# Altium footprint library Sucaiku.PcbLib: 51 footprints (part 2 of 4)
Each footprint in its own frame and in the unit in brackets; x right, y up, seen from the top. Pads: shape width x height; smd on the part's side, far side on the other; paste and mask are expansions set on the pad; w line width, h text height; cw(c..) or ccw(c..) is an arc to the next point about the centre after c.
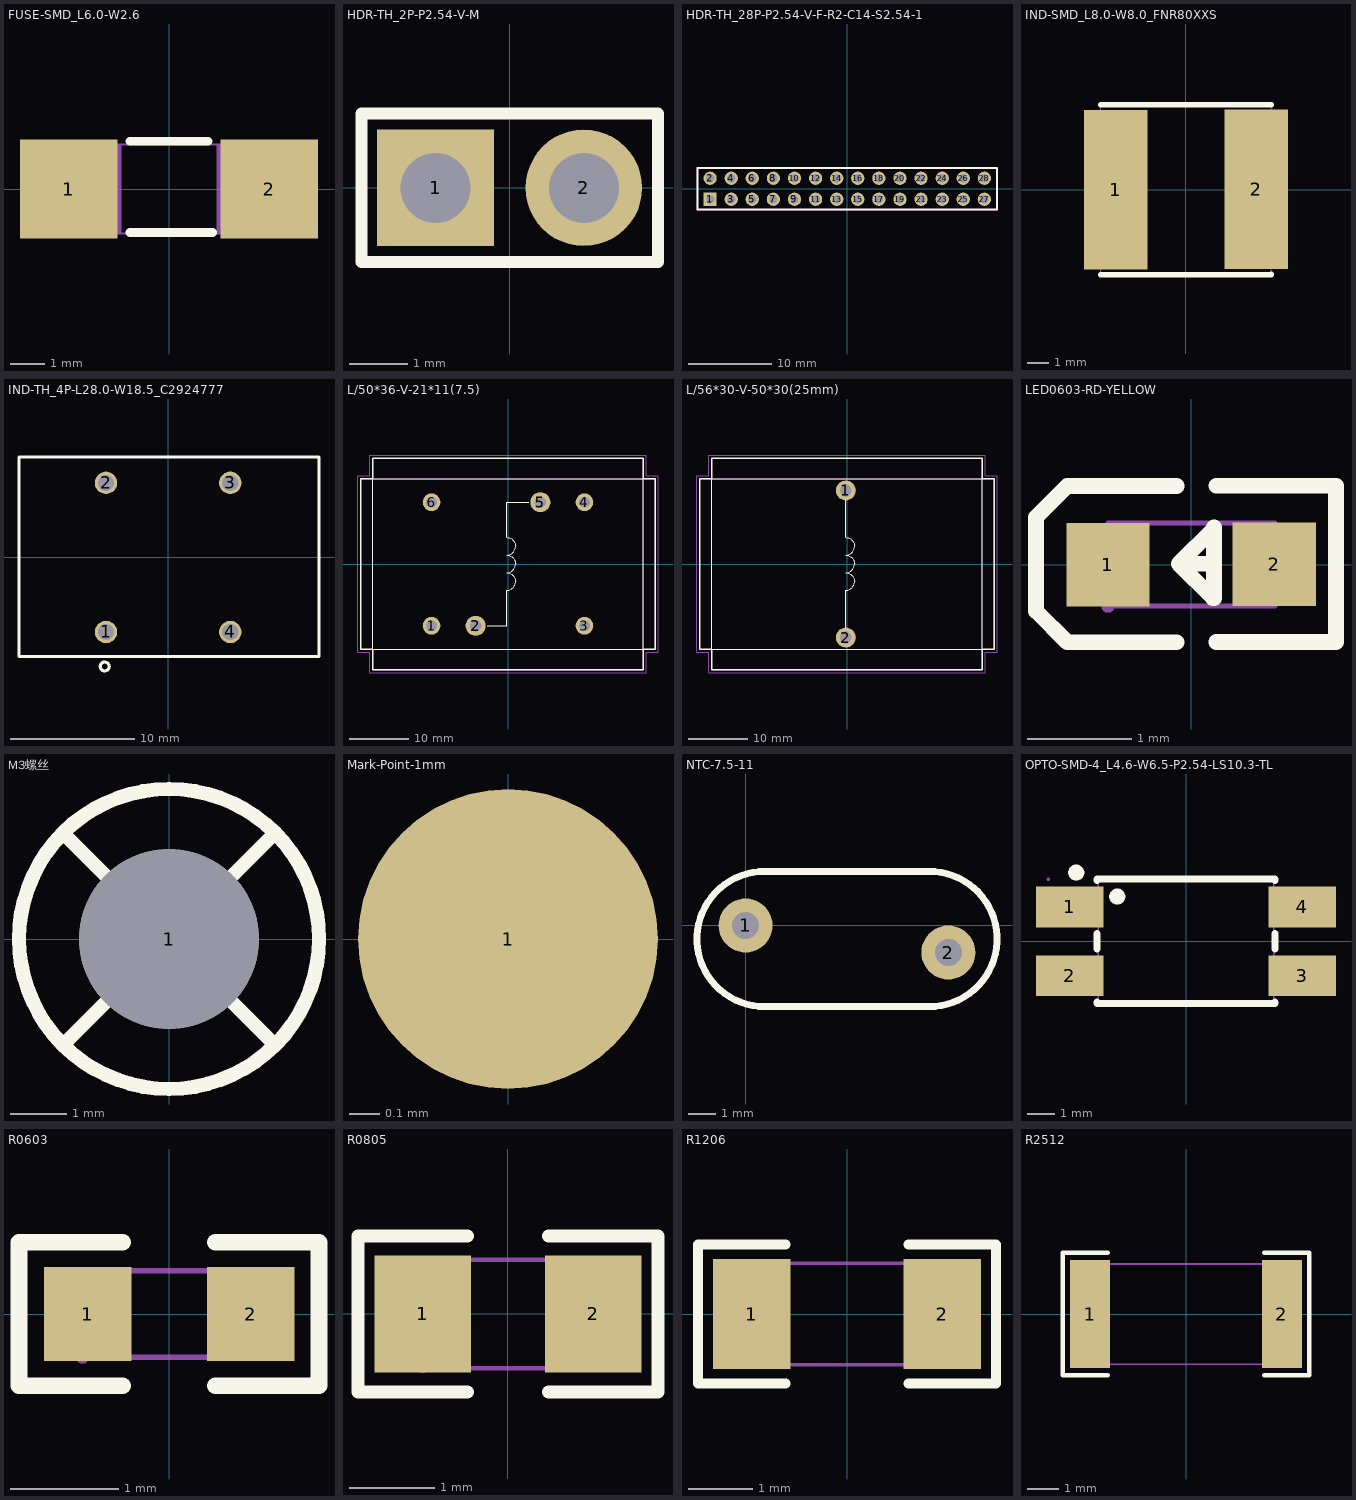
[diagram p1: the footprints below, top view; thin cyan lines are the x and y axes]

## FUSE-SMD_L6.0-W2.6 [mil]
pads (2):
  rect 112.2x114.2 smd paste+0 mask+2: 1(-115.2,0) 2(115.2,0)
Top Overlay:
  lines w10: -45,-50 50,-50 ; -45,55 45,55
Mechanical 7:
  lines w2: -118.1,-51.2 118.1,-51.2 118.1,51.2 -118.1,51.2 -118.1,-51.2
Mechanical 8:
  region: -115.7,-51.2 -116.1,-52.4 -117.1,-53.3 -118.4,-53.5 -119.6,-53 -120.4,-51.8 -120.4,-50.5 -119.6,-49.4 -118.4,-48.8 -117.1,-49 -116.1,-49.9
Mechanical 9:
  region: 55.1,51.2 118.1,51.2 118.1,-51.2 55.1,-51.2
  region: -118.1,51.2 -55.1,51.2 -55.1,-51.2 -118.1,-51.2

## HDR-TH_2P-P2.54-V-M [mil]
pads (2):
  rect 78.7x78.7 hole 47.2: 1(-50,0)
  round 78.7 hole 47.2: 2(50,0)
Top Overlay:
  lines w8: -100,-50 -100,50 -25,50 100,50 100,-50 -100,-50
Mechanical 7:
  lines w2: -100,-49.2 100,-49.2 100,49.2 -100,49.2 -100,-49.2
Mechanical 8:
  region: -97.7,-49.2 -98,-50.5 -99,-51.4 -100.4,-51.6 -101.6,-51 -102.3,-49.9 -102.3,-48.5 -101.6,-47.4 -100.4,-46.9 -99,-47.1 -98,-47.9
Mechanical 9:
  region: -62.6,12.6 -37.4,12.6 -37.4,-12.6 -62.6,-12.6
  region: 37.4,12.6 62.6,12.6 62.6,-12.6 37.4,-12.6

## HDR-TH_28P-P2.54-V-F-R2-C14-S2.54-1 [mil]
pads (28):
  rect 63x63 hole 40.2: 1(-650,-50)
  round 63 hole 40.2: 2(-650,50) 3(-550,-50) 4(-550,50) 5(-450,-50) 6(-450,50) 7(-350,-50) 8(-350,50) 9(-250,-50) 10(-250,50) 11(-150,-50) 12(-150,50) 13(-50,-50) 14(-50,50) 15(50,-50) 16(50,50) 17(150,-50) 18(150,50) 19(250,-50) 20(250,50) 21(350,-50) 22(350,50) 23(450,-50) 24(450,50) 25(550,-50) 26(550,50) 27(650,-50) 28(650,50)
Top Overlay:
  lines w10: -709.9,-98.4 709.8,-98.4 709.8,98.5 -709.9,98.5 -709.9,-98.4
Mechanical 7:
  lines w2: -709.9,-98.4 -709.9,98.5 709.8,98.5 709.8,-98.4 -709.9,-98.4
Mechanical 8:
  region: -707.5,-98.4 -707.9,-99.7 -708.9,-100.5 -710.2,-100.7 -711.4,-100.2 -712.1,-99.1 -712.1,-97.7 -711.4,-96.6 -710.2,-96.1 -708.9,-96.2 -707.9,-97.1
Mechanical 9:
  region: -662.6,-42.1 -637.4,-42.1 -637.4,-57.8 -662.6,-57.8
  region: -662.6,57.9 -637.4,57.9 -637.4,42.2 -662.6,42.2
  region: -562.6,-42.1 -537.4,-42.1 -537.4,-57.8 -562.6,-57.8
  region: -562.6,57.9 -537.4,57.9 -537.4,42.2 -562.6,42.2
  region: -462.6,-42.1 -437.4,-42.1 -437.4,-57.8 -462.6,-57.8
  region: -462.6,57.9 -437.4,57.9 -437.4,42.2 -462.6,42.2
  region: -362.6,-42.1 -337.4,-42.1 -337.4,-57.8 -362.6,-57.8
  region: -362.6,57.9 -337.4,57.9 -337.4,42.2 -362.6,42.2
  region: -262.6,-42.1 -237.4,-42.1 -237.4,-57.8 -262.6,-57.8
  region: -262.6,57.9 -237.4,57.9 -237.4,42.2 -262.6,42.2
  region: -162.6,-42.1 -137.4,-42.1 -137.4,-57.8 -162.6,-57.8
  region: -162.6,57.9 -137.4,57.9 -137.4,42.2 -162.6,42.2
  region: -62.6,-42.1 -37.4,-42.1 -37.4,-57.8 -62.6,-57.8
  region: -62.6,57.9 -37.4,57.9 -37.4,42.2 -62.6,42.2
  region: 37.4,-42.1 62.6,-42.1 62.6,-57.8 37.4,-57.8
  region: 37.4,57.9 62.6,57.9 62.6,42.2 37.4,42.2
  region: 137.4,-42.1 162.6,-42.1 162.6,-57.8 137.4,-57.8
  region: 137.4,57.9 162.6,57.9 162.6,42.2 137.4,42.2
  region: 237.4,-42.1 262.6,-42.1 262.6,-57.8 237.4,-57.8
  region: 237.4,57.9 262.6,57.9 262.6,42.2 237.4,42.2
  region: 337.4,-42.1 362.6,-42.1 362.6,-57.8 337.4,-57.8
  region: 337.4,57.9 362.6,57.9 362.6,42.2 337.4,42.2
  region: 437.4,-42.1 462.6,-42.1 462.6,-57.8 437.4,-57.8
  region: 437.4,57.9 462.6,57.9 462.6,42.2 437.4,42.2
  region: 537.4,-42.1 562.6,-42.1 562.6,-57.8 537.4,-57.8
  region: 537.4,57.9 562.6,57.9 562.6,42.2 537.4,42.2
  region: 637.4,-42.1 662.6,-42.1 662.6,-57.8 637.4,-57.8
  region: 637.4,57.9 662.6,57.9 662.6,42.2 637.4,42.2

## IND-SMD_L8.0-W8.0_FNR80XXS [mil]
pads (2):
  rect 118.1x295.3 smd: 1(-129.9,-0.5) 2(129.9,0.5)
Top Overlay:
  lines w10: -157.5,-157.3 -157.5,-157.5 157.5,-157.5 157.5,-156.3 ; -157.5,157.4 157.5,157.4 157.5,157.2
Mechanical 7:
  lines w2: -157.5,-157.5 157.5,-157.5 157.5,157.4 -157.5,157.4 -157.5,-157.5
Mechanical 8:
  region: -155.1,157.4 -155.5,156.2 -156.5,155.3 -157.8,155.1 -159,155.7 -159.7,156.8 -159.7,158.1 -159,159.2 -157.8,159.8 -156.5,159.6 -155.5,158.7
Mechanical 9:
  region: -78.7,123.5 -78.7,-124.6 -157.5,-124.6 -157.5,123.5
  region: 78.8,-123.6 78.8,124.5 157.5,124.5 157.5,-123.6

## IND-TH_4P-L28.0-W18.5_C2924777 [mil]
pads (4):
  round 70.9 hole 51.2 paste-99999 mask+2: 1(-196.9,-236.2) 2(-196.9,236.2) 3(196.8,236.2) 4(196.8,-236.2)
Top Overlay:
  lines w10: -472.5,-313.8 477.7,-313.8 477.7,317.9 -472.5,317.9 -472.5,-313.8 ; -215.1,-347.1 -215.1,-343.8 -214.3,-340.6 -212.8,-337.7 -210.7,-335.2 -208.1,-333.2 -205.1,-331.9 -201.8,-331.3 -198.5,-331.5 -195.4,-332.5 -192.5,-334.1 -190.1,-336.4 -188.3,-339.1 -187.2,-342.2 -186.8,-345.5 -187.2,-348.7 -188.3,-351.8 -190.1,-354.6 -192.5,-356.8 -195.4,-358.5 -198.5,-359.4 -201.8,-359.6 -205.1,-359 -208.1,-357.7 -210.7,-355.8 -212.8,-353.3 -214.3,-350.3 -215.1,-347.1
Mechanical 9:
  region: -177.2,-236.2 -177.6,-240.1 -178.7,-243.7 -180.5,-247.2 -182.9,-250.1 -185.9,-252.6 -189.3,-254.4 -193,-255.5 -196.9,-255.9 -200.7,-255.5 -204.4,-254.4 -207.8,-252.6 -210.8,-250.1 -213.2,-247.2 -215,-243.7 -216.2,-240.1 -216.5,-236.2 -216.2,-232.4 -215,-228.7 -213.2,-225.3 -210.8,-222.3 -207.8,-219.9 -204.4,-218 -200.7,-216.9 -196.9,-216.5 -193,-216.9 -189.3,-218 -185.9,-219.9 -182.9,-222.3 -180.5,-225.3 -178.7,-228.7 -177.6,-232.4
  region: -177.2,236.2 -177.6,232.4 -178.7,228.7 -180.5,225.3 -182.9,222.3 -185.9,219.9 -189.3,218 -193,216.9 -196.9,216.5 -200.7,216.9 -204.4,218 -207.8,219.9 -210.8,222.3 -213.2,225.3 -215,228.7 -216.2,232.4 -216.5,236.2 -216.2,240.1 -215,243.8 -213.2,247.2 -210.8,250.1 -207.8,252.6 -204.4,254.4 -200.7,255.5 -196.9,255.9 -193,255.5 -189.3,254.4 -185.9,252.6 -182.9,250.1 -180.5,247.2 -178.7,243.8 -177.6,240.1
  region: 216.5,236.2 216.1,232.4 215,228.7 213.2,225.3 210.8,222.3 207.8,219.9 204.4,218 200.7,216.9 196.8,216.5 193,216.9 189.3,218 185.9,219.9 182.9,222.3 180.5,225.3 178.7,228.7 177.5,232.4 177.2,236.2 177.5,240.1 178.7,243.8 180.5,247.2 182.9,250.1 185.9,252.6 189.3,254.4 193,255.5 196.8,255.9 200.7,255.5 204.4,254.4 207.8,252.6 210.8,250.1 213.2,247.2 215,243.8 216.1,240.1
  region: 216.5,-236.2 216.1,-240.1 215,-243.7 213.2,-247.2 210.8,-250.1 207.8,-252.6 204.4,-254.4 200.7,-255.5 196.8,-255.9 193,-255.5 189.3,-254.4 185.9,-252.6 182.9,-250.1 180.5,-247.2 178.7,-243.7 177.5,-240.1 177.2,-236.2 177.5,-232.4 178.7,-228.7 180.5,-225.3 182.9,-222.3 185.9,-219.9 189.3,-218 193,-216.9 196.8,-216.5 200.7,-216.9 204.4,-218 207.8,-219.9 210.8,-222.3 213.2,-225.3 215,-228.7 216.1,-232.4

## L/50*36-V-21*11(7.5) [mil]
pads (6):
  round 118.1 hole 70.9: 1(-511.9,-413.4) 3(511.8,-413.4) 4(511.8,413.4) 6(-511.9,413.4)
  round 133.9 hole 78.7: 2(-216.6,-413.4) 5(216.5,413.4)
Top Overlay:
  lines w5: -139.8,-413.4 -8,-413.4 -8,-176.6 -1.2,-176.2 5.6,-175 12.2,-173.1 18.5,-170.4 24.4,-166.9 29.9,-162.8 34.9,-158.1 39.3,-152.8 43.1,-147.1 46.2,-141 48.5,-134.5 50.1,-127.8 50.9,-121 50.9,-114.1 50.1,-107.3 48.5,-100.6 46.2,-94.2 43.1,-88.1 39.3,-82.3 34.9,-77.1 29.9,-72.3 24.4,-68.2 18.5,-64.8 12.2,-62.1 5.6,-60.1 -1.2,-58.9 -8,-58.5 -1.2,-58.1 5.6,-56.9 12.2,-55 18.5,-52.2 24.4,-48.8 29.9,-44.7 34.9,-40 39.3,-34.7 43.1,-29 46.2,-22.9 48.5,-16.4 50.1,-9.7 50.9,-2.9 50.9,4 50.1,10.8 48.5,17.5 46.2,23.9 43.1,30.1 39.3,35.8 34.9,41.1 29.9,45.8 24.4,49.9 18.5,53.3 12.2,56 5.6,58 -1.2,59.2 -8,59.6 -1.2,60 5.6,61.2 12.2,63.1 18.5,65.9 24.4,69.3 29.9,73.4 34.9,78.1 39.3,83.4 43.1,89.1 46.2,95.2 48.5,101.7 50.1,108.4 50.9,115.2 50.9,122.1 50.1,128.9 48.5,135.6 46.2,142 43.1,148.2 39.3,153.9 34.9,159.2 29.9,163.9 24.4,168 18.5,171.4 12.2,174.1 5.6,176.1 -1.2,177.3 -8,177.7 -8,413.4 138.7,413.4 ; -984.3,-570.9 984.2,-570.9 984.2,570.9 -984.3,570.9 -984.3,-570.9 ; -905.6,-708.7 -905.6,708.6 905.5,708.6 905.5,-708.7 -905.6,-708.7
  lines w10: -984.3,-570.9 -905.5,-570.9 -905.5,-708.7 905.5,-708.7 905.5,-570.9 984.2,-570.9 984.2,570.9 905.5,570.9 905.5,708.7 -905.5,708.7 -905.6,570.9 -984.3,570.9 -984.3,-570.9
Mechanical 16:
  drawing of 234 lines, arcs and shapes, not listed

## L/56*30-V-50*30(25mm) [mil]
pads (2):
  round 133.9 hole 78.7: 1(-8,492.1) 2(-8,-492.2)
Top Overlay:
  lines w5: -8,-466 -8,-176.7 -1.2,-176.3 5.6,-175.1 12.2,-173.1 18.5,-170.4 24.4,-166.9 29.9,-162.8 34.9,-158.1 39.3,-152.9 43.1,-147.1 46.2,-141 48.5,-134.5 50.1,-127.9 50.9,-121 50.9,-114.2 50.1,-107.4 48.5,-100.7 46.2,-94.2 43.1,-88.1 39.3,-82.3 34.9,-77.1 29.9,-72.4 24.4,-68.3 18.5,-64.8 12.2,-62.1 5.6,-60.1 -1.2,-59 -8,-58.6 -1.2,-58.2 5.6,-57 12.2,-55 18.5,-52.3 24.4,-48.8 29.9,-44.7 34.9,-40 39.3,-34.8 43.1,-29 46.2,-22.9 48.5,-16.4 50.1,-9.8 50.9,-2.9 50.9,3.9 50.1,10.8 48.5,17.4 46.2,23.9 43.1,30 39.3,35.8 34.9,41 29.9,45.7 24.4,49.8 18.5,53.3 12.2,56 5.6,58 -1.2,59.2 -8,59.6 -1.2,60 5.6,61.2 12.2,63.1 18.5,65.8 24.4,69.3 29.9,73.4 34.9,78.1 39.3,83.3 43.1,89.1 46.2,95.2 48.5,101.7 50.1,108.4 50.9,115.2 50.9,122 50.1,128.9 48.5,135.6 46.2,142 43.1,148.1 39.3,153.9 34.9,159.1 29.9,163.9 24.4,168 18.5,171.4 12.2,174.1 5.6,176.1 -1.2,177.3 -8,177.7 -8,485 ; -984.3,-570.9 -984.3,570.8 984.2,570.8 984.2,-570.9 -984.3,-570.9 ; -905.5,-708.7 905.5,-708.7 905.5,708.6 -905.5,708.6 -905.5,-708.7
  lines w10: -984.3,-570.9 -905.5,-570.9 -905.5,-708.7 905.5,-708.7 905.5,-570.9 984.2,-570.9 984.2,570.8 905.5,570.8 905.5,708.6 -905.5,708.6 -905.5,570.8 -984.3,570.8 -984.3,-570.9
Mechanical 16:
  lines w2: -984.3,-570.9 -984.3,570.8 984.2,570.8 984.2,-570.9 -984.3,-570.9 ; -905.5,-708.7 -905.5,708.6 905.5,708.6 905.5,-708.7 -905.5,-708.7 ; -35.5,-494.5 -34.7,-499.1 -33.1,-503.5 -30.9,-507.6 -27.9,-511.2 -24.4,-514.3 -20.4,-516.8 -16.1,-518.5 -11.5,-519.5 -6.8,-519.7 -2.2,-519.1 2.3,-517.7 6.4,-515.6 10.2,-512.8 13.4,-509.5 16,-505.6 18,-501.3 19.1,-496.8 19.5,-492.2 19.1,-487.5 18,-483 16,-478.7 13.4,-474.8 10.2,-471.5 6.4,-468.7 2.3,-466.6 -2.2,-465.2 -6.8,-464.6 -11.5,-464.8 -16.1,-465.8 -20.4,-467.5 -24.4,-470 -27.9,-473.1 -30.9,-476.7 -33.1,-480.8 -34.7,-485.2 -35.5,-489.8 -35.5,-494.5 ; -35.5,489.8 -34.7,485.1 -33.1,480.7 -30.9,476.7 -27.9,473 -24.4,469.9 -20.4,467.5 -16.1,465.7 -11.5,464.8 -6.8,464.6 -2.2,465.2 2.3,466.5 6.4,468.6 10.2,471.4 13.4,474.8 16,478.7 18,482.9 19.1,487.4 19.5,492.1 19.1,496.8 18,501.3 16,505.5 13.4,509.4 10.2,512.8 6.4,515.6 2.3,517.7 -2.2,519 -6.8,519.6 -11.5,519.4 -16.1,518.4 -20.4,516.7 -24.4,514.3 -27.9,511.2 -30.9,507.5 -33.1,503.4 -34.7,499 -35.5,494.4 -35.5,489.8
  lines w5: -1004,-590.6 -1004,590.5 -925.2,590.5 -925.2,728.3 925.2,728.3 925.2,590.5 1003.9,590.5 1003.9,-590.6 925.2,-590.6 925.2,-728.3 -925.2,-728.3 -925.2,-590.6 -1004,-590.6

## LED0603-RD-YELLOW [mil]
pads (2):
  rect 31.5x31.5 smd: 1(-31.4,-0.1) 2(31.5,0.1)
Top Overlay:
  lines w5.9: -5.4,-29.4 -46.8,-29.4 -58.6,-17.6 -58.6,-13.6 -58.6,13.9 -58.6,17.9 -46.8,29.7 -5.4,29.7 ; 8.7,0.3 -4.7,0.3 ; 9.5,-29.3 54.8,-29.3 ; 9.5,29.8 54.8,29.8 54.8,-28.5 ; -4.7,0.3 8.7,13.6 8.7,14 8.7,-12.7 8.3,-12.7 -4.7,0.3
Mechanical 6:
  region: -42.1,2.4 -20.8,2.4 -20.8,-2.7 -42.1,-2.7
  region: 29,-10.5 29,10.7 34.1,10.7 34.1,-10.5
  region: 20.9,2.7 42.1,2.7 42.1,-2.4 20.9,-2.4
Mechanical 7:
  lines w2: -31.4,-15.7 31.6,-15.7 31.6,15.7 -31.4,15.7 -31.4,-15.7
Mechanical 8:
  region: -29.1,-15.9 -29.4,-17.2 -30.4,-18 -31.8,-18.2 -33,-17.7 -33.7,-16.6 -33.7,-15.2 -33,-14.1 -31.8,-13.5 -30.4,-13.7 -29.4,-14.6
Mechanical 9:
  region: -31.4,-15.9 -31.4,15.6 -19.6,15.6 -19.6,-15.9
  region: 19.7,-15.6 19.7,15.9 31.6,15.9 31.6,-15.6

## M3螺丝 [mil]
pads (1):
  round 126 hole 126 paste-99999 mask+4: 1(0,0)
Top Overlay:
  lines w10: -72.5,-72.5 72.5,72.5 ; -72.5,72.5 72.5,-72.5 ; -105,0 -104.6,9.2 -103.4,18.3 -101.4,27.2 -98.6,35.9 -95.1,44.4 -90.9,52.5 -86,60.3 -80.4,67.5 -74.2,74.3 -67.5,80.5 -60.2,86 -52.5,91 -44.3,95.2 -35.9,98.7 -27.1,101.5 -18.2,103.4 -9.1,104.6 0,105 9.2,104.6 18.3,103.4 27.2,101.5 36,98.7 44.4,95.2 52.5,91 60.3,86 67.5,80.5 74.3,74.3 80.5,67.5 86,60.3 91,52.5 95.2,44.4 98.7,35.9 101.5,27.2 103.4,18.3 104.6,9.2 105,0 104.6,-9.1 103.4,-18.2 101.5,-27.1 98.7,-35.9 95.2,-44.3 91,-52.5 86,-60.2 80.5,-67.5 74.3,-74.2 67.5,-80.4 60.3,-86 52.5,-90.9 44.4,-95.1 36,-98.6 27.2,-101.4 18.3,-103.4 9.2,-104.6 0,-105 -9.1,-104.6 -18.2,-103.4 -27.1,-101.4 -35.9,-98.6 -44.3,-95.1 -52.5,-90.9 -60.2,-86 -67.5,-80.4 -74.2,-74.2 -80.4,-67.5 -86,-60.2 -90.9,-52.5 -95.1,-44.3 -98.6,-35.9 -101.4,-27.1 -103.4,-18.2 -104.6,-9.1 -105,0

## Mark-Point-1mm [mil]
pads (1):
  round 39.4 smd paste-1000 mask+19.7: 1(0,0)

## NTC-7.5-11 [mil]
pads (2):
  round 78.7 hole 39.4: 1(0,0) 2(295.22,-39.39)
Top Overlay:
  lines w10: 19.73,-118.16 275.56,-118.16 ; 19.73,78.7 275.56,78.7 ; 27.58,-118.09 18.74,-117.73 9.97,-116.6 1.34,-114.62 -7.07,-111.86 -15.13,-108.33 -22.91,-104.23 -30.33,-99.35 -37.19,-93.76 -43.56,-87.68 -49.43,-81.11 -54.59,-73.96 -59.11,-66.33 -62.93,-58.41 -66.04,-50.06 -68.38,-41.65 -70,-32.95 -70.78,-24.11 -70.78,-15.34 -70,-6.51 -68.38,2.19 -66.04,10.75 -62.93,18.95 -59.11,26.87 -54.59,34.51 -49.43,41.65 -43.63,48.3 -37.19,54.45 -30.26,59.96 -22.91,64.77 -15.13,69.01 -7,72.48 1.34,75.17 9.97,77.15 18.74,78.28 27.58,78.77 ; 267.71,-118.09 276.55,-117.73 285.25,-116.53 293.87,-114.55 302.36,-111.86 310.42,-108.33 318.2,-104.23 325.62,-99.35 332.41,-93.83 338.85,-87.68 344.64,-81.03 349.88,-73.96 354.4,-66.33 358.22,-58.41 361.33,-50.06 363.67,-41.65 365.22,-32.88 366.07,-24.11 366,-15.27 365.29,-6.51 363.67,2.19 361.33,10.75 358.22,18.95 354.33,26.94 349.88,34.51 344.71,41.65 338.85,48.37 332.48,54.45 325.55,59.96 318.2,64.77 310.42,69.01 302.29,72.48 293.94,75.17 285.32,77.15 276.55,78.28 267.71,78.77

## OPTO-SMD-4_L4.6-W6.5-P2.54-LS10.3-TL [mil]
pads (4):
  rect 98.4x59.1 smd: 1(-169.3,50) 2(-169.3,-50) 3(169.3,-50) 4(169.3,50)
Top Overlay:
  lines w10: -129.9,-88.6 -129.9,-90.5 129.9,-90.5 129.9,-88.6 ; -129.9,-11.3 -129.9,11.4 ; -129.9,88.7 -129.9,90.6 129.9,90.6 129.9,88.7 ; 129.9,-11.3 129.9,11.4
  lines w11.8: -165.9,100 -165.6,98 -164.5,96.2 -163,94.9 -161,94.2 -159,94.2 -157.1,94.9 -155.5,96.2 -154.5,98 -154.1,100 -154.5,102.1 -155.5,103.8 -157.1,105.2 -159,105.9 -161,105.9 -163,105.2 -164.5,103.8 -165.6,102.1 -165.9,100 ; -105.9,65 -105.6,63 -104.5,61.2 -103,59.9 -101,59.2 -99,59.2 -97.1,59.9 -95.5,61.2 -94.5,63 -94.1,65 -94.5,67.1 -95.5,68.8 -97.1,70.2 -99,70.9 -101,70.9 -103,70.2 -104.5,68.8 -105.6,67.1 -105.9,65
Mechanical 6:
  lines w23.6: -191.7,48.6 -191,45.7 -189.6,43.1 -187.5,40.9 -185,39.4 -182.2,38.4 -179.3,38.3 -176.4,38.8 -173.7,40.1 -171.4,42 -169.7,44.4 -168.6,47.1 -168.2,50 -168.6,53 -169.7,55.7 -171.4,58.1 -173.7,60 -176.4,61.3 -179.3,61.8 -182.2,61.6 -185,60.7 -187.5,59.1 -189.6,57 -191,54.4 -191.7,51.5 -191.7,48.6
Mechanical 7:
  lines w2: -128,-90.1 127.9,-90.1 127.9,90.2 -128,90.2 -128,-90.1
Mechanical 8:
  region: -198.4,90.2 -198.8,88.9 -199.8,88.1 -201.1,87.9 -202.3,88.4 -203.1,89.5 -203.1,90.9 -202.3,92 -201.1,92.5 -199.8,92.4 -198.8,91.5
Mechanical 9:
  region: 161.4,-73.6 161.4,-26.3 200.8,-26.3 200.8,-73.6
  region: 161.4,26.4 161.4,73.7 200.8,73.7 200.8,26.4
  region: -161.4,73.7 -161.4,26.4 -200.8,26.4 -200.8,73.7
  region: -161.4,-26.3 -161.4,-73.6 -200.8,-73.6 -200.8,-26.3
Mechanical 10:
  region: 124,26.4 124,73.7 161.8,73.7 161.8,26.4
  region: 124,-73.6 124,-26.3 161.8,-26.3 161.8,-73.6
  region: -124,73.7 -124,26.4 -161.8,26.4 -161.8,73.7
  region: -124,-26.3 -124,-73.6 -161.8,-73.6 -161.8,-26.3

## R0603 [mil]
pads (2):
  rect 31.8x34 smd paste-3937 mask+2: 1(-29.6,0) 2(29.7,0)
Top Overlay:
  lines w6: -16.8,-26 -54.5,-26 -54.5,26 -16.8,26 ; 16.8,-26 54.5,-26 54.5,26 16.8,26
Top Paste:
  region: 47.1,17.7 15.6,17.7 13.6,15.8 13.6,6.8 28.2,6.8 28.2,-6.2 13.6,-6.2 13.6,-15.7 15.6,-17.7 47.1,-17.7 49,-15.7 49,15.8
  region: -47,-17.7 -15.5,-17.7 -13.6,-15.7 -13.6,-6.7 -28.1,-6.7 -28.1,6.2 -13.6,6.2 -13.6,15.8 -15.5,17.7 -47,17.7 -49,15.8 -49,-15.7
Mechanical 7:
  lines w2: -31.5,-15.7 -31.5,15.8 31.5,15.8 31.5,-15.7 -31.5,-15.7
Mechanical 8:
  region: -29.1,-15.7 -29.5,-17 -30.5,-17.9 -31.8,-18.1 -33,-17.5 -33.7,-16.4 -33.7,-15.1 -33,-13.9 -31.8,-13.4 -30.5,-13.6 -29.5,-14.4
Mechanical 9:
  region: -31.5,-15.7 -31.5,15.8 -19.7,15.8 -19.7,-15.7
  region: 31.5,-15.7 31.5,15.8 19.7,15.8 19.7,-15.7

## R0805 [mil]
pads (2):
  rect 44.6x54.2 smd paste-3937 mask+2: 1(-39.3,0) 2(39.4,0)
Top Overlay:
  lines w6: -18.7,-36.1 -69.3,-36.1 -69.3,36.1 -18.7,36.1 ; 18.8,-36.1 69.4,-36.1 69.4,36.1 18.8,36.1
Top Paste:
  region: 17.7,-25.2 17.7,-8.6 35.3,-8.6 35.3,9.1 17.9,9.1 17.7,25.2 19.7,27.2 65,27.2 67,25.2 67,-25.2 65,-27.1 19.7,-27.1
  region: -66.9,-25.2 -66.9,25.2 -64.9,27.2 -19.7,27.2 -17.7,25.2 -17.5,9.1 -35.2,9.1 -35.2,-8.6 -17.9,-8.6 -17.7,-25.2 -19.7,-27.1 -64.9,-27.1
Mechanical 7:
  lines w2: -39.3,-25.1 39.4,-25.1 39.4,25.1 -39.3,25.1 -39.3,-25.1
Mechanical 8:
  region: -37,-25.1 -37.4,-26.4 -38.4,-27.2 -39.7,-27.4 -40.9,-26.9 -41.6,-25.7 -41.6,-24.4 -40.9,-23.3 -39.7,-22.7 -38.4,-22.9 -37.4,-23.8
Mechanical 9:
  region: 39.4,-25.1 39.4,25.1 23.6,25.1 23.6,-25.1
  region: -39.3,-25.1 -39.3,25.1 -23.6,25.1 -23.6,-25.1

## R1206 [mil]
pads (2):
  rect 47.5x67 smd paste-3937 mask+2: 1(-58.2,0) 2(58.2,0)
Top Overlay:
  lines w6: -37.4,-42.5 -91,-42.5 -91,42.5 -37.4,42.5 ; 37.4,-42.5 91,-42.5 91,42.5 37.4,42.5
Top Paste:
  region: -34.4,-29.5 -34.4,-15.3 -38.4,-11.4 -46.7,-11.4 -50.6,-7.4 -50.6,7.5 -46.7,11.4 -38.4,11.4 -34.4,15.3 -34.4,29.5 -38.4,33.5 -78.1,33.5 -82,29.5 -82,-29.5 -78.1,-33.5 -38.4,-33.5
  region: 34.4,-29.5 34.4,-15.3 38.4,-11.4 46.7,-11.4 50.6,-7.4 50.6,7.5 46.7,11.4 38.4,11.4 34.4,15.3 34.4,29.5 38.4,33.5 78.1,33.5 82,29.5 82,-29.5 78.1,-33.5 38.4,-33.5
Mechanical 7:
  lines w2: -61,-31 61,-31 61,31 -61,31 -61,-31
Mechanical 8:
  region: -58.7,-31 -59,-32.3 -60,-33.1 -61.4,-33.3 -62.6,-32.8 -63.3,-31.7 -63.3,-30.3 -62.6,-29.2 -61.4,-28.7 -60,-28.8 -59,-29.7
Mechanical 9:
  region: 61,-31 61,31 43.3,31 43.3,-31
  region: -61,-31 -61,31 -43.3,31 -43.3,-31

## R2512 [mil]
pads (2):
  rect 50.5x136.1 smd paste-3937 mask+2: 1(-120.7,0) 2(120.7,0)
Top Overlay:
  lines w6: -98.5,-77 -155,-77 -155,77.1 -98.5,77.1 ; 98.5,-77 155,-77 155,77.1 98.5,77.1
Top Paste:
  region: -95.5,-64.1 -95.5,-27 -99.4,-23.1 -108.7,-23.1 -112.6,-19.2 -112.6,19.2 -108.7,23.2 -99.4,23.2 -95.5,27.1 -95.5,64.1 -99.4,68.1 -142,68.1 -146,64.1 -146,-64.1 -142,-68 -99.4,-68
  region: 95.5,-64.1 95.5,-27 99.4,-23.1 108.7,-23.1 112.6,-19.2 112.6,19.2 108.7,23.2 99.4,23.2 95.5,27.1 95.5,64.1 99.4,68.1 142,68.1 146,64.1 146,-64.1 142,-68 99.4,-68
Mechanical 7:
  lines w2: -124,-63 124,-63 124,63 -124,63 -124,-63
Mechanical 8:
  region: -122.6,-63 -123,-64.2 -124,-65.1 -125.3,-65.3 -126.5,-64.8 -127.3,-63.6 -127.3,-62.3 -126.5,-61.2 -125.3,-60.6 -124,-60.8 -123,-61.7
Mechanical 9:
  region: 100.4,-63 100.4,63 124,63 124,-63
  region: -124,-63 -124,63 -100.4,63 -100.4,-63